# Altium footprint library Other.PcbLib: 5 footprints
Each footprint in its own frame and in the unit in brackets; x right, y up, seen from the top. Pads: shape width x height; smd on the part's side, far side on the other; paste and mask are expansions set on the pad; w line width, h text height; cw(c..) or ccw(c..) is an arc to the next point about the centre after c.
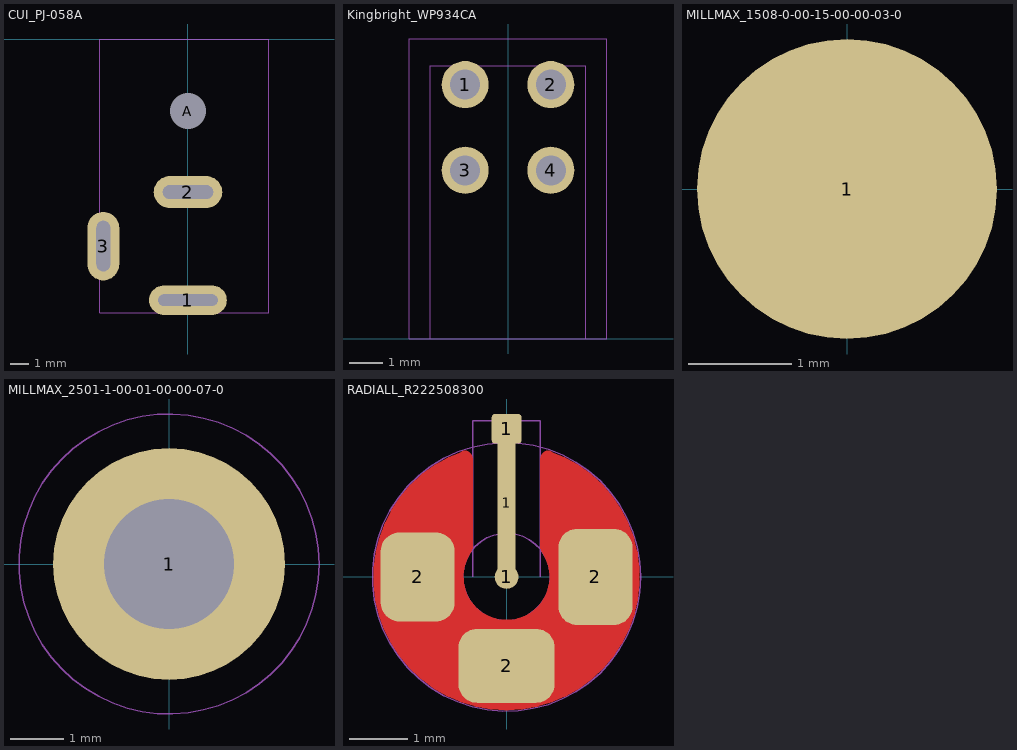
[diagram p0: the footprints below, top view; thin cyan lines are the x and y axes]

## CUI_PJ-058A [mm] "DC POWER JACK"
pads (4):
  oval 4.318x1.651 hole 0.635 slot 3.302 at 0 deg: 1(0,-14.5)
  oval 3.81x1.778 hole 0.762 slot 2.794 at 0 deg: 2(0,-8.5)
  oval 1.778x3.81 hole 0.762 slot 2.794 at 90 deg: 3(-4.7,-11.5)
  round 1 hole 2 unplated: A(0,-4)
Mechanical 16:
  lines w0.025: -4.903,-15.2 -4.903,0 4.497,0 4.497,-15.2 -4.903,-15.2
3D body "PJ-058A.stp": height 11, standoff -3.5, extent -4.903,-15.2 4.497,0

## Kingbright_WP934CA [mil]
pads (4):
  round 55 hole 35: 1(-50,296.85) 2(50,296.85) 3(-50,196.85) 4(50,196.85)
Mechanical 15:
  lines w1: -115,0 -115,350 115,350 115,0 -115,0
Mechanical 16:
  lines w1: -90.54,0 90.55,0 90.55,318.9 -90.54,318.9 -90.54,0
3D body "WP934CA.STEP": height 380.94, standoff -122.99, extent -90.54,-82.68 114.18,318.9

## MILLMAX_1508-0-00-15-00-00-03-0 [mil]
pads (1):
  round 115 smd paste-10 mask+1.5: 1(0,0)
3D body: height 10, standoff 0, extent -54.78,-54.89 54.78,54.9
3D body: height 55, standoff 10, extent -49.82,-49.9 49.79,49.9
3D body: height 180, standoff 55, extent -9.14,-8.98 8.78,8.99

## MILLMAX_2501-1-00-01-00-00-07-0 [mil]
pads (1):
  round 170 hole 95 mask+2: 1(0,0)
Top Paste:
  lines w35: -58.91,-27.47 ccw(c0,0) -27.47,-58.91 ; -58.91,27.47 cw(c0,0) -27.47,58.91 ; 27.47,-58.91 ccw(c0,0) 58.91,-27.47 ; 27.47,58.91 cw(c0,0) 58.91,27.47
Mechanical 15:
  circle w1: c0,0 r110
  lines w1: -40,70 -40,0 ccw(c0,0) 40,0 40,70
3D body "MILLMAX-2501-1-00-01-00-00-07-0.step": height 219, standoff -78, extent -62.49,-62.49 62.51,62.51

## RADIALL_R222508300 [mil]
pads (6):
  round 16 smd mask+2: 1(0,0)
  rrect50% 12x110 smd paste-1 mask+2: 1(0,50)
  rrect20% 20x20 smd mask+2: 1(0,100)
  rrect50% 50x60 smd paste-2 mask+2: 2(-60,0)
  rrect50% 65x50 smd paste-2 mask+2: 2(0,-60)
  rrect50% 50x65 smd paste-2 mask+2: 2(60,0)
Top Layer:
  region: 22.83,19 22.83,80 33,80 72,46 83,7 80,-26 51,-72 4,-86 -59,-65 -88,-7 -68,57 -37,80 -22.83,80 -22.83,19 -27,19 -38,-5 -7,-37 31,-21 32,19
  lines w10: -28.29,18.86 ccw(c0,0) 28.29,18.86 ; -28.08,80.23 ccw(c0,0) 28.08,80.23
Top Paste:
  region: -30,40 -75,40 -30,75
  region: 30,75 30,40 75,40
  region: 40,-40 75,-40 40,-75
  region: -75,-40 -40,-75 -40,-40
Mechanical 16:
  circle w1: c0,0 r29.53
  circle w1: c0,0 r90.55
  lines w1: -22.83,0 -22.83,105.51 22.83,105.51 22.83,0
3D body "RADIALL-R222508300.stp": height 198.91, standoff -1.09, extent -81.89,-81.88 81.89,105.52